# Altium schematic symbol library AMC1301DWVR.SchLib: 2 symbols
Pins are listed as number, name and electrical type; pins without a type are passive.

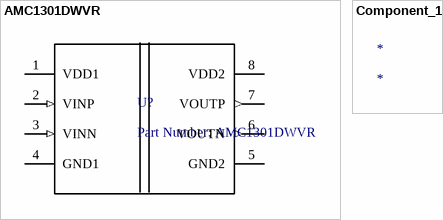
[diagram p0: symbols AMC1301DWVR to Component_1]

## AMC1301DWVR
designator U?, comment Part Number: AMC1301DWVR
No Description Available; Vendor: Texas Instruments; Built_By: Texas_Instrument_Team; Manufacturer_Part_Number: AMC1301DWVR; Copyright: Copyright (C) 2018 Accelerated Designs. All rights reserved; RefDes: RefDes; Type: DEV; Value: Value
footprint DWV0008A
pins: 1 VDD1 (power), 2 VINP (in), 3 VINN (in), 4 GND1 (power), 5 GND2 (power), 6 VOUTN (out), 7 VOUTP (out), 8 VDD2 (power)

## Component_1
designator *